# EAGLE library part MA470 (library monolithic-power-systems)
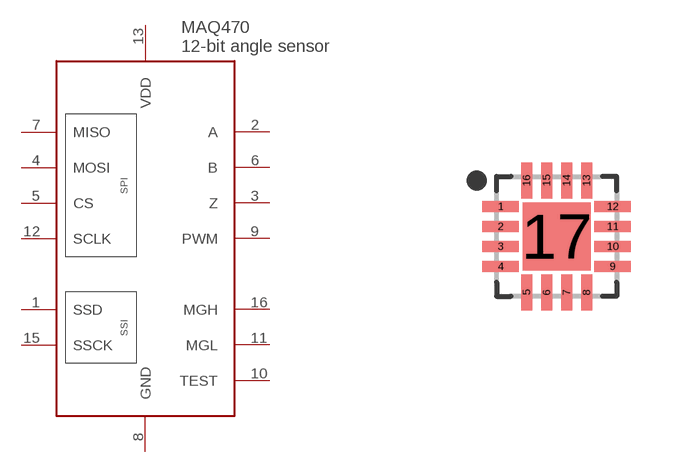
[diagram p0: symbol with the pads of QFN50P300X300X100-17T170N; footprint QFN50P300X300X100-17T170N]

Designator prefix -

## MA470  [QFN50P300X300X100-17T170N]
1  SSD
2  A
3  Z
4  MOSI
5  CS
6  B
7  MISO
8  GND  pwr
9  PWM
10  TEST
11  MGL
12  SCLK
13  VDD  pwr
15  SSCK
16  MGH

## Footprint QFN50P300X300X100-17T170N (pad centres in mm)
16-QFN, 0.50 mm pitch, 3.00 X 3.00 X 1.00 mm body, 1.70 X 1.70 mm thermal pad 16-pin QFN package with 0.50 mm pitch with body size 3.00 X 3.00 X 1.00 mm and thermal pad size 1.70 X 1.70 mm
smd 0.912 x 0.282: 1 -1.4,0.75; 2 -1.4,0.25; 3 -1.4,-0.25; 4 -1.4,-0.75; 9 1.4,-0.75; 10 1.4,-0.25; 11 1.4,0.25; 12 1.4,0.75
smd 0.282 x 0.912: 5 -0.75,-1.4; 6 -0.25,-1.4; 7 0.25,-1.4; 8 0.75,-1.4; 13 0.75,1.4; 14 0.25,1.4; 15 -0.25,1.4; 16 -0.75,1.4
smd 1.7 x 1.7: 17 0,0